# EAGLE library part RTCC-DS1337 (library eagleLib v2)
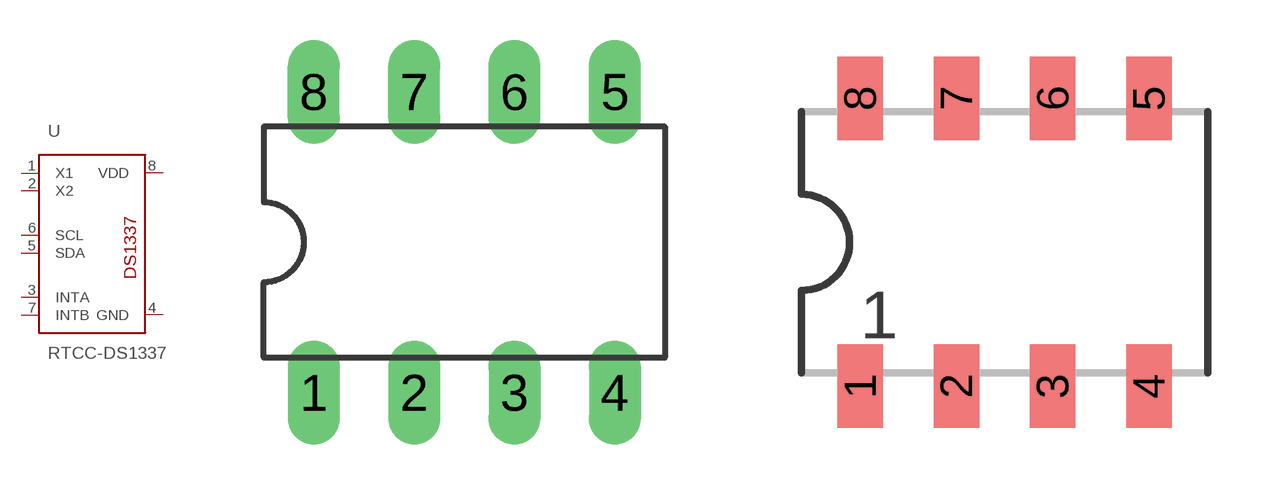
[diagram p25: symbol with the pads of DIL08; footprints DIL08, DIP8]

Designator prefix -

## RTCC-DS1337-D  [DIL08]
1  X1
2  X2
3  INTA
4  GND
5  SDA
6  SCL
7  INTB
8  VDD

## RTCC-DS1337-D2  [DIP8]
Pads as for DIL08

## RTCC-DS1337-S  [SO08]
Pads as for DIL08

## Footprint DIL08 (pad centres in mm)
Dual In Line Package
drill 0.813 long: 1 -3.81,-3.81; 2 -1.27,-3.81; 3 1.27,-3.81; 4 3.81,-3.81; 5 3.81,3.81; 6 1.27,3.81; 7 -1.27,3.81; 8 -3.81,3.81

## Footprint DIP8 (pad centres in mm)
SMD DIL08 dual in line package'
smd 1.2 x 2.2: 1 -3.81,-3.8; 2 -1.27,-3.8; 3 1.27,-3.8; 4 3.81,-3.8; 5 3.81,3.8; 6 1.27,3.8; 7 -1.27,3.8; 8 -3.81,3.8

## Footprint SO08 (pad centres in mm)
SMALL OUTLINE INTEGRATED CIRCUIT body 3.9 mm/JEDEC MS-012AA
smd 0.6 x 2.2: 1 -1.905,-2.6; 2 -0.635,-2.6; 3 0.635,-2.6; 4 1.905,-2.6; 5 1.905,2.6; 6 0.635,2.6; 7 -0.635,2.6; 8 -1.905,2.6